# Altium schematic symbol library TSAL_PL.SchLib: 35 symbols (part 1 of 2)
Pins are listed as number, name and electrical type; pins without a type are passive.

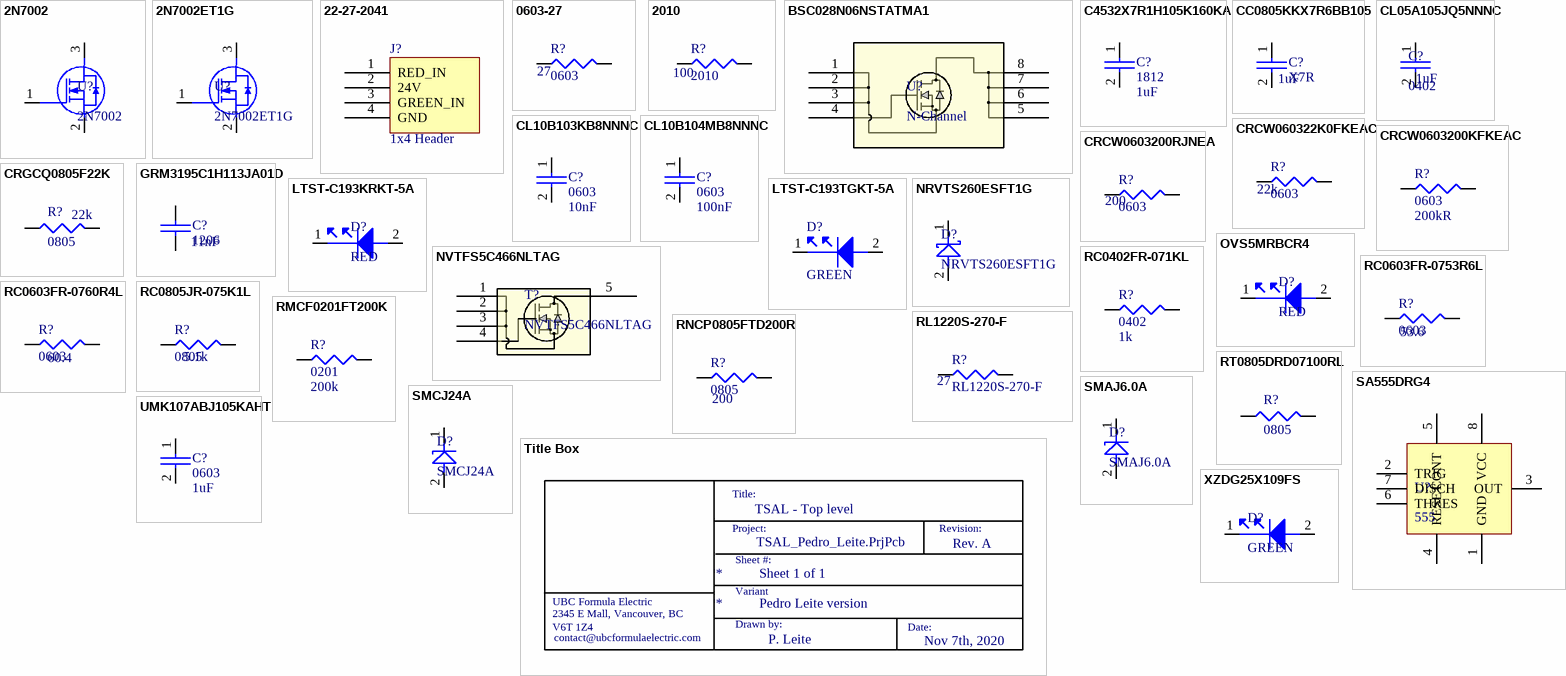
[diagram p0: symbols 2N7002 to XZDG25X109FS]

## 2N7002
designator U?
ON SEMICONDUCTOR - 2N7002 - MOSFET Transistor, N Channel, 115 mA, 60 V, 1.2 ohm, 10 V, 2.1 V; Manufacturer: ON Semiconductor / Fairchild; Drain to Source Voltage (Vdss): 60V; Continuous Drain Current (ID): 115mA; Drain to Source Resistance: 1.2R; Gate to Source Voltage (Vgs): 20V; Power Dissipation: 200mW; Element Configuration: Single; Threshold Voltage: 2.1V; Number of Elements: 1; On-State Resistance: 5.3R; Input Capacitance: 50pF; Rds On Max: 7.5R; Supplier 1: Digi-Key; Manufacturer Part Number: 2N7002; RoHS: Yes; Category: MOSFETs; Stock 1: 1092022; Pricing 1: 1=0.32000, 10=0.26300, 25=0.22040, 100=0.10780, 500=0.08992, 1000=0.06248 (USD); Mount: Surface Mount; Case/Package: SOT-23; Number of Pins: 3; Contact Plating: Tin,Matte; Min Operating Temperature: -55°C; Max Operating Temperature: 150°C; Voltage Rating (DC): 60V; Current Rating: 115mA; Drain to Source Breakdown Voltage: 60V; Packaging: Tape and Reel; Max Power Dissipation: 200mW; Package Quantity: 1; Current: 115mA; Voltage: 60V; Nominal Vgs: 2.1V; Dual Supply Voltage: 60V; Length: 2.92mm; Height: 0.93mm; Width: 3.05mm; Radiation Hardening: No; Lead Free: Lead Free; REACH SVHC: No SVHC; ComponentLink1URL: https://datasheet.ciiva.com/931/2n7000-931777.pdf?src-supplier=Farnell; ComponentLink1Description: https://datasheet.ciiva.com/931/2n7000-931777.pdf?src-supplier=Farnell; ComponentLink2URL: https://datasheet.ciiva.com/1254/2n7002-1254451.pdf?src-supplier=Newark; ComponentLink2Description: https://datasheet.ciiva.com/1254/2n7002-1254451.pdf?src-supplier=Newark; ComponentLink3URL: https://datasheet.ciiva.com/15137/getdatasheetpartid-93547-15137771.pdf?src-supplier=Verical; ComponentLink3Description: https://datasheet.ciiva.com/15137/getdatasheetpartid-93547-15137771.pdf?src-supplier=Verical; ComponentLink4URL: https://datasheet.ciiva.com/27746/47-0120-27746881.pdf?src-supplier=Rapid+Electronics; ComponentLink4Description: https://datasheet.ciiva.com/27746/47-0120-27746881.pdf?src-supplier=Rapid+Electronics; ComponentLink5URL: https://datasheet.ciiva.com/1254/660093-1254452.pdf?src-supplier=Newark; ComponentLink5Description: https://datasheet.ciiva.com/1254/660093-1254452.pdf?src-supplier=Newark; ComponentLink6URL: https://datasheet.ciiva.com/931/2n7000-931762.pdf?src-supplier=Digi-Key; ComponentLink6Description: https://datasheet.ciiva.com/931/2n7000-931762.pdf?src-supplier=Digi-Key; ComponentLink7URL: https://datasheet.ciiva.com/931/2n7000-931763.pdf?src-supplier=Digi-Key; ComponentLink7Description: https://datasheet.ciiva.com/931/2n7000-931763.pdf?src-supplier=Digi-Key; ComponentLink8URL: https://datasheet.ciiva.com/931/2n7000-931764.pdf?src-supplier=Digi-Key; ComponentLink8Description: https://datasheet.ciiva.com/931/2n7000-931764.pdf?src-supplier=Digi-Key; ComponentLink9URL: https://datasheet.ciiva.com/1188/660093-1188359.pdf?src-supplier=Element14; ComponentLink9Description: https://datasheet.ciiva.com/1188/660093-1188359.pdf?src-supplier=Element14; ComponentLink10URL: https://datasheet.ciiva.com/1188/660093-1188361.pdf?src-supplier=Element14; ComponentLink10Description: https://datasheet.ciiva.com/1188/660093-1188361.pdf?src-supplier=Element14; ComponentLink11URL: https://datasheet.ciiva.com/17007/2n7002-17007243.pdf?src-supplier=Future+Electronics; ComponentLink11Description: https://datasheet.ciiva.com/17007/2n7002-17007243.pdf?src-supplier=Future+Electronics; ComponentLink12URL: https://datasheet.ciiva.com/3304/nds7002a-3304381.pdf?src-supplier=Avnet; ComponentLink12Description: https://datasheet.ciiva.com/3304/nds7002a-3304381.pdf?src-supplier=Avnet; ComponentLink13URL: https://datasheet.ciiva.com/22655/660093-22655230.pdf?src-supplier=Element14; ComponentLink13Description: https://datasheet.ciiva.com/22655/660093-22655230.pdf?src-supplier=Element14; Supplier Part Number 1: 2N7002NCT-ND
footprint 2N7002
pins: 1 G, 2 S, 3 D

## 2N7002ET1G
designator U?
Trans MOSFET N-CH 60V 0.26A 3-Pin SOT-23 T/R; Manufacturer: ON Semiconductor; Continuous Drain Current (ID): 260mA; Turn-Off Delay Time: 4.8ns; Turn-On Delay Time: 1.7ns; Gate to Source Voltage (Vgs): 20V; Rds On Max: 2.5R; Input Capacitance: 26.7pF; Rise Time: 1.2ns; Max Power Dissipation: 300mW; Element Configuration: Single; Nominal Vgs: 1V; Number of Elements: 1; Supplier 1: Digi-Key; Manufacturer Part Number: 2N7002ET1G; RoHS: Yes; Category: MOSFETs; Stock 1: 151215; Pricing 1: 1=0.18000, 10=0.16300, 25=0.15520, 100=0.06820, 500=0.05356, 1000=0.03720 (USD); Case/Package: SOT-23-3; Number of Pins: 3; Min Operating Temperature: -55°C; Max Operating Temperature: 150°C; Package Quantity: 3000; Packaging: Tape and Reel; Fall Time: 1.2ns; Drain to Source Resistance: 2.5R; On-State Resistance: 2.5R; Drain to Source Breakdown Voltage: 60V; Power Dissipation: 300mW; Threshold Voltage: 1V; Length: 2.9mm; Width: 1.3mm; Height: 0.94mm; Radiation Hardening: No; Lead Free: Lead Free; REACH SVHC: No SVHC; Halogen Free: Halogen Free; ComponentLink1URL: https://datasheet.ciiva.com/936/2n7002e-d-936787.pdf?src-supplier=Digi-Key; ComponentLink1Description: https://datasheet.ciiva.com/936/2n7002e-d-936787.pdf?src-supplier=Digi-Key; ComponentLink2URL: https://datasheet.ciiva.com/8059/2n7002e-d-8059427.pdf?src-supplier=Element14; ComponentLink2Description: https://datasheet.ciiva.com/8059/2n7002e-d-8059427.pdf?src-supplier=Element14; ComponentLink3URL: https://datasheet.ciiva.com/13060/2n7002e-d-105476-13060091.pdf?src-supplier=Mouser; ComponentLink3Description: https://datasheet.ciiva.com/13060/2n7002e-d-105476-13060091.pdf?src-supplier=Mouser; ComponentLink4URL: https://datasheet.ciiva.com/26146/2n7002e-d-26146200.pdf?src-supplier=Avnet+Europe; ComponentLink4Description: https://datasheet.ciiva.com/26146/2n7002e-d-26146200.pdf?src-supplier=Avnet+Europe; ComponentLink5URL: https://datasheet.ciiva.com/49018/70339334-49018202.pdf?src-supplier=Allied+Electronics; ComponentLink5Description: https://datasheet.ciiva.com/49018/70339334-49018202.pdf?src-supplier=Allied+Electronics; ComponentLink6URL: https://datasheet.ciiva.com/22641/1708226-22641627.pdf?src-supplier=Element14; ComponentLink6Description: https://datasheet.ciiva.com/22641/1708226-22641627.pdf?src-supplier=Element14; ComponentLink7URL: https://datasheet.ciiva.com/22641/1708226-22641628.pdf?src-supplier=Element14; ComponentLink7Description: https://datasheet.ciiva.com/22641/1708226-22641628.pdf?src-supplier=Element14; ComponentLink8URL: https://datasheet.ciiva.com/936/2n7002e-d-936788.pdf?src-supplier=Digi-Key; ComponentLink8Description: https://datasheet.ciiva.com/936/2n7002e-d-936788.pdf?src-supplier=Digi-Key; ComponentLink9URL: https://datasheet.ciiva.com/936/2n7002e-d-936789.pdf?src-supplier=Digi-Key; ComponentLink9Description: https://datasheet.ciiva.com/936/2n7002e-d-936789.pdf?src-supplier=Digi-Key; ComponentLink10URL: https://datasheet.ciiva.com/3304/2n7002e-d-3304389.pdf?src-supplier=Avnet; ComponentLink10Description: https://datasheet.ciiva.com/3304/2n7002e-d-3304389.pdf?src-supplier=Avnet; ComponentLink11URL: https://datasheet.ciiva.com/3304/2n7002e-d-3304390.pdf?src-supplier=Avnet; ComponentLink11Description: https://datasheet.ciiva.com/3304/2n7002e-d-3304390.pdf?src-supplier=Avnet; ComponentLink12URL: https://datasheet.ciiva.com/15198/getdatasheetpartid-53846-15198758.pdf?src-supplier=Verical; ComponentLink12Description: https://datasheet.ciiva.com/15198/getdatasheetpartid-53846-15198758.pdf?src-supplier=Verical; ComponentLink13URL: https://datasheet.ciiva.com/16305/2n7002e-d-16305452.pdf?src-supplier=Future+Electronics; ComponentLink13Description: https://datasheet.ciiva.com/16305/2n7002e-d-16305452.pdf?src-supplier=Future+Electronics; Supplier Part Number 1: 2N7002ET1GOSCT-ND
footprint 2N7002ET1G
pins: 1 G, 2 S, 3 D

## 22-27-2041
designator J?, comment 1x4 Header
Conn Wire to Board HDR 4 POS 2.54mm Solder ST Thru-Hole Bag; Manufacturer: Molex; Number of Positions: 4; Connector Type: Male Pin; Gender: Male; Contact Resistance: 10mR; Supplier 1: Digi-Key; Manufacturer Part Number: 22-27-2041; RoHS: Yes; Category: Headers and Wire Housings; Stock 1: 5089; Pricing 1: 1=0.40000, 10=0.38300, 100=0.26800, 500=0.22974, 1000=0.19145, 5000=0.16410, 10000=0.15316 (USD); Mount: Through Hole; Color: Natural; Housing Color: White; Housing Material: Nylon; Contact Material: Brass; Contact Plating: Tin,Copper; Min Operating Temperature: 0°C; Max Operating Temperature: 75°C; Number of Rows: 1; Packaging: Bulk; Termination: Solder; Orientation: Straight; Number of Contacts: 4; Fastening Type: Friction; Length: 10.16mm; Pitch: 2.54mm; Depth: 5.8mm; Contact Mating Length: 0.295inch; ComponentLink1URL: https://datasheet.ciiva.com/6813/022272021-sd-6813678.pdf?src-supplier=Digi-Key; ComponentLink1Description: https://datasheet.ciiva.com/6813/022272021-sd-6813678.pdf?src-supplier=Digi-Key; ComponentLink2URL: https://datasheet.ciiva.com/7844/1625756-7844114.pdf?src-supplier=Element14; ComponentLink2Description: https://datasheet.ciiva.com/7844/1625756-7844114.pdf?src-supplier=Element14; ComponentLink3URL: https://datasheet.ciiva.com/11746/0900766b80462714-11746241.pdf?src-supplier=RSComponents; ComponentLink3Description: https://datasheet.ciiva.com/11746/0900766b80462714-11746241.pdf?src-supplier=RSComponents; ComponentLink4URL: https://datasheet.ciiva.com/20207/22-0838e-20207115.pdf?src-supplier=Rapid+Electronics; ComponentLink4Description: https://datasheet.ciiva.com/20207/22-0838e-20207115.pdf?src-supplier=Rapid+Electronics; ComponentLink5URL: https://datasheet.ciiva.com/15217/getdatasheetpartid-176661-15217685.pdf?src-supplier=Verical; ComponentLink5Description: https://datasheet.ciiva.com/15217/getdatasheetpartid-176661-15217685.pdf?src-supplier=Verical; ComponentLink6URL: https://datasheet.ciiva.com/49385/879300-49385686.pdf?src-supplier=Jameco; ComponentLink6Description: https://datasheet.ciiva.com/49385/879300-49385686.pdf?src-supplier=Jameco; Supplier Part Number 1: WM4113-ND
footprint HDR1x4
pins: 1 RED_IN, 2 24V, 3 GREEN_IN, 4 GND

## 0603-27
designator R?, comment 0603  R?: 27
RES SMD 27 OHM 1% 1/4W 0603; Manufacturer: Vishay; Manufacturer Part Number: CRCW060327R0FKEAHP; Voltage Rating (DC): 75V; Max Power Dissipation: 250mW; Temperature Coefficient: 100ppm/°C; Supplier 1: Digi-Key; RoHS: Yes; Category: Chip SMD Resistors; Stock 1: 23069; Pricing 1: 1=0.15000, 10=0.12900, 100=0.05030, 1000=0.02106, 2500=0.01930 (USD); Mount: Surface Mount; Case/Package: 0603; Contact Plating: Tin; Case Code (Metric): 1608; Case Code (Imperial): 0603; Min Operating Temperature: -55°C; Max Operating Temperature: 155°C; Resistor Type: Thick Film; Features: Automotive AEC-Q200; Tolerance: 1%; Power Rating: 250mW; Voltage Rating: 75V; Packaging: Tape and Reel; Package Quantity: 5000; Number of Terminations: 2; Termination: SMD/SMT; Length: 1.6mm; Width: 0.033inch; Height: 0.45mm; Depth: 0.85mm; Radiation Hardening: No; Lead Free: Lead Free; REACH SVHC: Unknown; Military Standard: Not; ComponentLink1URL: https://datasheet.ciiva.com/2576/crcwhpe3-2576651.pdf?src-supplier=Digi-Key; ComponentLink1Description: https://datasheet.ciiva.com/2576/crcwhpe3-2576651.pdf?src-supplier=Digi-Key; ComponentLink2URL: https://datasheet.ciiva.com/7672/1885357-7672891.pdf?src-supplier=Element14; ComponentLink2Description: https://datasheet.ciiva.com/7672/1885357-7672891.pdf?src-supplier=Element14; ComponentLink3URL: https://datasheet.ciiva.com/9022/crcwhpe3-9022395.pdf?src-supplier=Avnet; ComponentLink3Description: https://datasheet.ciiva.com/9022/crcwhpe3-9022395.pdf?src-supplier=Avnet; ComponentLink4URL: https://datasheet.ciiva.com/7672/1885357-7672892.pdf?src-supplier=Element14; ComponentLink4Description: https://datasheet.ciiva.com/7672/1885357-7672892.pdf?src-supplier=Element14; ComponentLink5URL: https://datasheet.ciiva.com/12559/crcwhpe3-46056-12559294.pdf?src-supplier=Mouser; ComponentLink5Description: https://datasheet.ciiva.com/12559/crcwhpe3-46056-12559294.pdf?src-supplier=Mouser; Supplier Part Number 1: 541-27.0SCT-ND
footprint 0603 RESISTOR (YAGEO) (Chip Resistor, 2-Leads, Body 1.60x0.80mm, IPC Medium Density)
pins: 1, 2

## 2010
designator R?  Resistence: 100
TE CONNECTIVITY - CRGP2010F100R - RES, 100R, 1%, 1.25W, 2010, THICK FILM; Supplier 1: Digi-Key; Manufacturer: TE Connectivity; Manufacturer Part Number: CRGP2010F100R; RoHS: No; Category: Chip SMD Resistors; Stock 1: 14514; Pricing 1: 1=0.37000, 10=0.28600, 100=0.12040, 1000=0.06643 (USD); ComponentLink1URL: https://www.te.com/commerce/DocumentDelivery/DDEController?Action=srchrtrv&amp;DocNm=9-1773463-9&amp;DocType=DS&amp;DocLang=English&src-supplier=Digi-Key; ComponentLink1Description: https://www.te.com/commerce/DocumentDelivery/DDEController?Action=srchrtrv&amp;DocNm=9-1773463-9&amp;DocType=DS&amp;DocLang=English&src-supplier=Digi-Key; ComponentLink2URL: https://4donline.ihs.com/images/VipMasterIC/IC/TYEL/TYEL-S-A0005460475/TYEL-S-A0005460475-1.pdf?hkey=52A5661711E402568146F3353EA87419&src-supplier=Farnell; ComponentLink2Description: https://4donline.ihs.com/images/VipMasterIC/IC/TYEL/TYEL-S-A0005460475/TYEL-S-A0005460475-1.pdf?hkey=52A5661711E402568146F3353EA87419&src-supplier=Farnell; ComponentLink3URL: https://4donline.ihs.com/images/VipMasterIC/IC/TYEL/TYEL-S-A0005460475/TYEL-S-A0005460475-1.pdf?hkey=52A5661711E402568146F3353EA87419&src-supplier=Newark; ComponentLink3Description: https://4donline.ihs.com/images/VipMasterIC/IC/TYEL/TYEL-S-A0005460475/TYEL-S-A0005460475-1.pdf?hkey=52A5661711E402568146F3353EA87419&src-supplier=Newark; Supplier Part Number 1: A130648CT-ND
footprint 2010 RESISTOR (YAGEO) (Chip Resistor, 2-Leads, Body 5.00x2.50mm, IPC Medium Density)
pins: 1, 2

## BSC028N06NSTATMA1
designator U?, comment N-Channel
OptiMOS Power Transistor MOSFET N-Channel 60V 100A 8-Pin PG-TDSON T/R; Manufacturer: Infineon; Manufacturer Part Number: BSC028N06NSTATMA1; Rds On Max: 2.8mR; Input Capacitance: 3.375nF; Max Power Dissipation: 100W; Supplier 1: Digi-Key; RoHS: No; Category: MOSFETs; Stock 1: 4955; Pricing 1: 1=2.03000, 10=1.82000, 25=1.71720, 100=1.33950, 500=1.13338, 1000=0.96166, 2500=0.94792 (USD); Mount: Surface Mount; Number of Pins: 8; Min Operating Temperature: -55°C; Max Operating Temperature: 175°C; Packaging: Tape and Reel; Drain to Source Voltage (Vdss): 60V; Continuous Drain Current (ID): 100A; ComponentLink1URL: https://www.infineon.com/dgdl/Infineon-BSC028N06NST-DS-v02_01-EN.pdf?fileId=5546d462602a9dc80160546e6c1d2cbb&src-supplier=Digi-Key; ComponentLink1Description: https://www.infineon.com/dgdl/Infineon-BSC028N06NST-DS-v02_01-EN.pdf?fileId=5546d462602a9dc80160546e6c1d2cbb&src-supplier=Digi-Key; Supplier Part Number 1: BSC028N06NSTATMA1CT-ND
pins: 1, 2, 3, 4, 5, 6, 7, 8

## C4532X7R1H105K160KA
designator C?, comment 1812  Capacitance: 1uF
CAP CER 1UF 50V X7R 1812; Manufacturer: TDK; Manufacturer Part Number: C4532X7R1H105K160KA; Dielectric Material: Ceramic; Tolerance: 10%; Supplier 1: Digi-Key; RoHS: Yes; Category: Ceramic Capacitors; Stock 1: 990; Pricing 1: 1=0.73000, 10=0.53900, 50=0.43120, 100=0.36960, 500=0.29260 (USD); Mount: Surface Mount; Case/Package: 1812; Number of Pins: 2; Weight: 0.000952oz; Case Code (Metric): 4532; Case Code (Imperial): 1812; Min Operating Temperature: -55°C; Max Operating Temperature: 125°C; Package Quantity: 1; Voltage Rating: 50V; Packaging: Tape and Reel; Voltage Rating (DC): 50V; Dielectric: X7R; Termination: SMD/SMT; Resistor Type: Ceramic; Length: 0.177inch; Width: 0.126inch; Thickness: 0.071inch; Depth: 3.2mm; REACH SVHC: Unknown; Lead Free: Lead Free; ComponentLink1URL: https://datasheet.ciiva.com/24224/c4532x7r1h105k160ka-265492-24224025.pdf?src-supplier=Mouser; ComponentLink1Description: https://datasheet.ciiva.com/24224/c4532x7r1h105k160ka-265492-24224025.pdf?src-supplier=Mouser; ComponentLink2URL: https://datasheet.ciiva.com/6286/tdkmlcccaprange-6286270.pdf?src-supplier=Digi-Key; ComponentLink2Description: https://datasheet.ciiva.com/6286/tdkmlcccaprange-6286270.pdf?src-supplier=Digi-Key; Supplier Part Number 1: 445-3913-1-ND
pins: 1, 2

## CC0805KKX7R6BB105
designator C?, comment X7R  Capacitance: 1uF
YAGEO - CC0805KKX7R6BB105 - Keramikvielschichtkondensator, SMD, 1 µF, 10 V, 0805 [Metrisch 2012], ± 10%, X7R, Baureihe CC; Dielectric Material: Ceramic; Voltage Rating: 10V; Supplier 1: Digi-Key; Manufacturer: Yageo; Manufacturer Part Number: CC0805KKX7R6BB105; RoHS: Yes; Category: Ceramic Capacitors; Stock 1: 620418; Pricing 1: 1=0.16000, 10=0.11300, 50=0.06440, 100=0.05340, 500=0.03740, 1000=0.03097 (USD); Mount: Surface Mount; Case/Package: 0805; Number of Pins: 2; Case Code (Imperial): 0805; Case Code (Metric): 2012; Min Operating Temperature: -55°C; Max Operating Temperature: 125°C; Tolerance: 10%; Voltage Rating (DC): 10V; Packaging: Tape and Reel; Package Quantity: 1; Dielectric: X7R; Termination: SMD/SMT; Resistor Type: Ceramic; Length: 2mm; Width: 1.25mm; Height: 1.25mm; Thickness: 0.057inch; Depth: 1.25mm; Radiation Hardening: No; REACH SVHC: Unknown; Lead Free: Lead Free; Halogen Free: Halogen Free; ComponentLink1URL: https://datasheet.ciiva.com/13389/upy-gp-np0-16v-to-50v-8-13389349.pdf?src-supplier=Mouser; ComponentLink1Description: https://datasheet.ciiva.com/13389/upy-gp-np0-16v-to-50v-8-13389349.pdf?src-supplier=Mouser; ComponentLink2URL: https://datasheet.ciiva.com/46430/1734573-46430165.pdf?src-supplier=Element14; ComponentLink2Description: https://datasheet.ciiva.com/46430/1734573-46430165.pdf?src-supplier=Element14; ComponentLink3URL: https://datasheet.ciiva.com/28450/1489800-28450742.pdf?src-supplier=Element14; ComponentLink3Description: https://datasheet.ciiva.com/28450/1489800-28450742.pdf?src-supplier=Element14; ComponentLink4URL: https://datasheet.ciiva.com/7978/1489800-7978199.pdf?src-supplier=Element14; ComponentLink4Description: https://datasheet.ciiva.com/7978/1489800-7978199.pdf?src-supplier=Element14; ComponentLink5URL: https://datasheet.ciiva.com/176/mlccorderingcode-176908.pdf?src-supplier=Digi-Key; ComponentLink5Description: https://datasheet.ciiva.com/176/mlccorderingcode-176908.pdf?src-supplier=Digi-Key; ComponentLink6URL: https://datasheet.ciiva.com/11583/upy-gphc-x7r-6-3v-to-50v-8-11583596.pdf?src-supplier=Avnet; ComponentLink6Description: https://datasheet.ciiva.com/11583/upy-gphc-x7r-6-3v-to-50v-8-11583596.pdf?src-supplier=Avnet; ComponentLink7URL: https://datasheet.ciiva.com/176/mlccorderingcode-176909.pdf?src-supplier=Digi-Key; ComponentLink7Description: https://datasheet.ciiva.com/176/mlccorderingcode-176909.pdf?src-supplier=Digi-Key; ComponentLink8URL: https://datasheet.ciiva.com/8033/1489800-8033973.pdf?src-supplier=Element14; ComponentLink8Description: https://datasheet.ciiva.com/8033/1489800-8033973.pdf?src-supplier=Element14; ComponentLink9URL: https://datasheet.ciiva.com/17437/upy-gphc-x7r-6-3v-to-50v-8-17437525.pdf?src-supplier=Avnet+Europe; ComponentLink9Description: https://datasheet.ciiva.com/17437/upy-gphc-x7r-6-3v-to-50v-8-17437525.pdf?src-supplier=Avnet+Europe; ComponentLink10URL: https://datasheet.ciiva.com/176/mlccorderingcode-176907.pdf?src-supplier=Digi-Key; ComponentLink10Description: https://datasheet.ciiva.com/176/mlccorderingcode-176907.pdf?src-supplier=Digi-Key; ComponentLink11URL: https://datasheet.ciiva.com/8033/1489800-8033998.pdf?src-supplier=Element14; ComponentLink11Description: https://datasheet.ciiva.com/8033/1489800-8033998.pdf?src-supplier=Element14; Supplier Part Number 1: 311-1458-1-ND
footprint RESC0805X60N
pins: 1, 2

## CL05A105JQ5NNNC
designator C?, comment 0402  Capacitance: 1uF
Cap Ceramic 1uF 6.3V X5R 5% SMD 0402 85°C Paper T/R; Manufacturer: Samsung; Manufacturer Part Number: CL05A105JQ5NNNC; Supplier 1: Digi-Key; RoHS: Yes; Category: Ceramic Capacitors; Stock 1: 1161821; Pricing 1: 1=0.10000, 10=0.04200, 50=0.02260, 100=0.01850, 500=0.01320, 1000=0.01038, 2500=0.00943, 5000=0.00868 (USD); Mount: Surface Mount; Case/Package: 0402; Case Code (Metric): 1005; Case Code (Imperial): 0402; Min Operating Temperature: -55°C; Max Operating Temperature: 85°C; Package Quantity: 1; Packaging: Cut Tape; Tolerance: 5%; Voltage Rating: 6.3V; Voltage Rating (DC): 6.3V; Length: 0.039inch; Width: 0.02inch; Thickness: 0.022inch; Lead Free: Lead Free; ComponentLink1URL: https://datasheet.ciiva.com/25717/cl05a105jq5nnnc-25717825.pdf?src-supplier=Digi-Key; ComponentLink1Description: https://datasheet.ciiva.com/25717/cl05a105jq5nnnc-25717825.pdf?src-supplier=Digi-Key; Supplier Part Number 1: 1276-1444-1-ND
footprint C0402
pins: 1, 2

## CL10B103KB8NNNC
designator C?, comment 0603  Capacitance: 10nF
Cap Ceramic 0.01uF 50VDC X7R 10% SMD 0603 Paper T/R; Manufacturer: Samsung; Manufacturer Part Number: CL10B103KB8NNNC; Voltage Rating (DC): 50V; Supplier 1: Digi-Key; RoHS: Yes; Category: Ceramic Capacitors; Stock 1: 3003971; Pricing 1: 1=0.10000, 10=0.02700, 50=0.01480, 100=0.01210, 500=0.00866, 1000=0.00681 (USD); Mount: Surface Mount; Case/Package: 0603; Case Code (Metric): 1608; Case Code (Imperial): 0603; Material: Ceramic; Contact Plating: Tin; Min Operating Temperature: -55°C; Max Operating Temperature: 125°C; Dielectric: X7R; Voltage: 50V; Tolerance: 10%; Voltage Rating: 50V; Package Quantity: 1; Packaging: Tape and Reel; Length: 1.6mm; Height: 0.8mm; Depth: 0.8mm; Thickness: 0.035inch; Width: 0.031inch; Radiation Hardening: No; Lead Free: Lead Free; ComponentLink1URL: https://datasheet.ciiva.com/15195/getdatasheetpartid-357415-15195721.pdf?src-supplier=Verical; ComponentLink1Description: https://datasheet.ciiva.com/15195/getdatasheetpartid-357415-15195721.pdf?src-supplier=Verical; ComponentLink2URL: https://datasheet.ciiva.com/29198/457455-da-01-en-vs-kondensator-0603-29198644.pdf?src-supplier=Conrad; ComponentLink2Description: https://datasheet.ciiva.com/29198/457455-da-01-en-vs-kondensator-0603-29198644.pdf?src-supplier=Conrad; ComponentLink3URL: https://datasheet.ciiva.com/20173/71-0315-20173334.pdf?src-supplier=Rapid+Electronics; ComponentLink3Description: https://datasheet.ciiva.com/20173/71-0315-20173334.pdf?src-supplier=Rapid+Electronics; Supplier Part Number 1: 1276-1009-1-ND
footprint 0603 CAPACITOR (TDK C-SERIES) (Chip Capacitor, 2-Leads, Body 1.60x0.80mm, IPC Medium Density)
pins: 1, 2

## CL10B104MB8NNNC
designator C?, comment 0603  Capacitance: 100nF
Cap Ceramic 0.1uF 50V X7R 20% SMD 0603 125C Paper T/R; Manufacturer: Samsung; Manufacturer Part Number: CL10B104MB8NNNC; Supplier 1: Digi-Key; RoHS: Yes; Category: Ceramic Capacitors; Stock 1: 711595; Pricing 1: 1=0.10000, 10=0.02800, 50=0.01520, 100=0.01250, 500=0.00890, 1000=0.00699 (USD); Mount: Surface Mount; Case/Package: 0603; Case Code (Imperial): 0603; Case Code (Metric): 1608; Min Operating Temperature: -55°C; Max Operating Temperature: 125°C; Dielectric: X7R; Package Quantity: 1; Packaging: Tape and Reel; Tolerance: 20%; Voltage Rating: 50V; Voltage Rating (DC): 50V; Length: 1.6mm; Height: 0.8mm; Thickness: 0.035inch; Depth: 0.8mm; Width: 0.031inch; Radiation Hardening: No; Lead Free: Lead Free; ComponentLink1URL: https://datasheet.ciiva.com/25767/cl10b104mb8nnnc-25767970.pdf?src-supplier=Digi-Key; ComponentLink1Description: https://datasheet.ciiva.com/25767/cl10b104mb8nnnc-25767970.pdf?src-supplier=Digi-Key; ComponentLink2URL: https://datasheet.ciiva.com/16428/cl05b104kq5nnnc-16428855.pdf?src-supplier=Future+Electronics; ComponentLink2Description: https://datasheet.ciiva.com/16428/cl05b104kq5nnnc-16428855.pdf?src-supplier=Future+Electronics; Supplier Part Number 1: 1276-1941-1-ND
pins: 1, 2

## CRCW060322K0FKEAC
designator R?, comment 0603  Resistance: 22k
Res Thick Film 0603 22K Ohm 1% 1/10W ±100ppm/°C Molded SMD Paper T/R; Manufacturer: Vishay Semiconductors; Manufacturer Part Number: CRCW060322K0FKEAC; Power Rating: 100mW; Supplier 1: Digi-Key; RoHS: Yes; Category: Resistors; Stock 1: 48223; Pricing 1: 1=0.10000, 10=0.03100, 100=0.01260, 1000=0.00567, 2500=0.00492 (USD); Mount: Surface Mount; Case/Package: Molded; Contact Plating: Tin; Min Operating Temperature: -55°C; Max Operating Temperature: 155°C; Resistor Type: Thick Film; Termination: Wraparound; Tolerance: 1%; Temperature Coefficient: 100ppm/°C; Length: 1.55mm; Lead Free: Lead Free; ComponentLink1URL: http://www.vishay.com/docs/28773/crcwce3.pdf?src-supplier=Digi-Key; ComponentLink1Description: http://www.vishay.com/docs/28773/crcwce3.pdf?src-supplier=Digi-Key; ComponentLink2URL: http://www.vishay.com/docs/20035/dcrcwe3.pdf?src-supplier=Avnet+Asia; ComponentLink2Description: http://www.vishay.com/docs/20035/dcrcwe3.pdf?src-supplier=Avnet+Asia; Supplier Part Number 1: 541-4036-1-ND
footprint 0603 RESISTOR (YAGEO) (Chip Resistor, 2-Leads, Body 1.60x0.80mm, IPC Medium Density)
pins: 1, 2

## CRCW0603200KFKEAC
designator R?, comment 0603  Resistance: 200kR
Res Thick Film 0603 200K Ohm 1% 1/10W ±100ppm/°C Molded SMD Paper T/R; Manufacturer: Vishay; Manufacturer Part Number: CRCW0603200KFKEAC; Power Rating: 100mW; Supplier 1: Digi-Key; RoHS: Yes; Category: Resistors; Stock 1: 12235; Pricing 1: 1=0.10000, 10=0.03100, 100=0.01260, 1000=0.00567, 2500=0.00492 (USD); Mount: Surface Mount; Case/Package: Molded; Contact Plating: Tin; Min Operating Temperature: -55°C; Max Operating Temperature: 155°C; Resistor Type: Thick Film; Termination: Wraparound; Temperature Coefficient: 100ppm/°C; Tolerance: 1%; Length: 1.55mm; Lead Free: Lead Free; ComponentLink1URL: http://www.vishay.com/docs/28773/crcwce3.pdf?src-supplier=Digi-Key; ComponentLink1Description: http://www.vishay.com/docs/28773/crcwce3.pdf?src-supplier=Digi-Key; Supplier Part Number 1: 541-4027-1-ND
footprint 0603 RESISTOR (YAGEO) (Chip Resistor, 2-Leads, Body 1.60x0.80mm, IPC Medium Density)
pins: 1, 2

## CRCW0603200RJNEA
designator R?, comment 0603  Resistance: 200
Resistor; Thick Film; 200 Ohms; 0.1 W; 5%; SMT; 0603; TCR 73 ppm/DegC; Tape and Reel; Manufacturer: Vishay Dale; Manufacturer Part Number: CRCW0603200RJNEA; Power Rating: 100mW; Voltage Rating: 75V; Temperature Coefficient: 200ppm/°C; Supplier 1: Digi-Key; RoHS: Yes; Category: Chip SMD Resistors; Stock 1: 28865; Pricing 1: 1=0.10000, 10=0.02800, 100=0.01140, 1000=0.00511, 2500=0.00444 (USD); Mount: Surface Mount; Case/Package: 0603; Number of Pins: 2; Weight: 7.1E-05oz; Case Code (Metric): 1608; Case Code (Imperial): 0603; Contact Plating: Tin; Min Operating Temperature: -55°C; Max Operating Temperature: 155°C; Package Quantity: 1; Tolerance: 5%; Packaging: Tape and Reel; Resistor Type: Thick Film; Number of Terminations: 2; Termination: Solder; Max Power Dissipation: 100mW; Voltage Rating (DC): 75V; Working Voltage: 75V; Features: Automotive AEC-Q200; Length: 1.55mm; Height: 0.45mm; Width: 0.033inch; Depth: 0.85mm; Radiation Hardening: No; REACH SVHC: Unknown; Military Standard: Not; Lead Free: Lead Free; ComponentLink1URL: https://datasheet.ciiva.com/2462/dcrcwe3-2462513.pdf?src-supplier=Digi-Key; ComponentLink1Description: https://datasheet.ciiva.com/2462/dcrcwe3-2462513.pdf?src-supplier=Digi-Key; ComponentLink2URL: https://datasheet.ciiva.com/2462/dcrcwe3-2462511.pdf?src-supplier=Digi-Key; ComponentLink2Description: https://datasheet.ciiva.com/2462/dcrcwe3-2462511.pdf?src-supplier=Digi-Key; ComponentLink3URL: https://datasheet.ciiva.com/16774/70201119-16774767.pdf?src-supplier=Allied+Electronics; ComponentLink3Description: https://datasheet.ciiva.com/16774/70201119-16774767.pdf?src-supplier=Allied+Electronics; ComponentLink4URL: https://datasheet.ciiva.com/2462/dcrcwe3-2462512.pdf?src-supplier=Digi-Key; ComponentLink4Description: https://datasheet.ciiva.com/2462/dcrcwe3-2462512.pdf?src-supplier=Digi-Key; ComponentLink5URL: https://datasheet.ciiva.com/28606/1747939-28606725.pdf?src-supplier=Element14; ComponentLink5Description: https://datasheet.ciiva.com/28606/1747939-28606725.pdf?src-supplier=Element14; ComponentLink6URL: https://datasheet.ciiva.com/16199/dcrcwe3-16199431.pdf?src-supplier=Future+Electronics; ComponentLink6Description: https://datasheet.ciiva.com/16199/dcrcwe3-16199431.pdf?src-supplier=Future+Electronics; Supplier Part Number 1: 541-200GCT-ND
footprint 0603 RESISTOR (YAGEO) (Chip Resistor, 2-Leads, Body 1.60x0.80mm, IPC Medium Density)
pins: 1, 2

## CRGCQ0805F22K
designator R?, comment 0805  Resistence: 22k
TE CONNECTIVITY - CRGCQ0805F22K - Resistore su Chip a Mont. Superficiale, 0805 [2012 Metrico], 22 kohm, CRGCQ Series, 150 V; Supplier 1: Digi-Key; Manufacturer: TE Connectivity; Manufacturer Part Number: CRGCQ0805F22K; RoHS: No; Category: Chip SMD Resistors; Stock 1: 38586; Pricing 1: 1=0.10000, 10=0.04400, 100=0.01790, 1000=0.00803, 2500=0.00697 (USD); ComponentLink1URL: https://4donline.ihs.com/images/VipMasterIC/IC/TYEL/TYEL-S-A0004929575/TYEL-S-A0004929575-1.pdf?hkey=52A5661711E402568146F3353EA87419&src-supplier=Newark; ComponentLink1Description: https://4donline.ihs.com/images/VipMasterIC/IC/TYEL/TYEL-S-A0004929575/TYEL-S-A0004929575-1.pdf?hkey=52A5661711E402568146F3353EA87419&src-supplier=Newark; ComponentLink2URL: https://www.te.com/commerce/DocumentDelivery/DDEController?Action=srchrtrv&amp;DocNm=1773204-3&amp;DocType=DS&amp;DocLang=English&src-supplier=Digi-Key; ComponentLink2Description: https://www.te.com/commerce/DocumentDelivery/DDEController?Action=srchrtrv&amp;DocNm=1773204-3&amp;DocType=DS&amp;DocLang=English&src-supplier=Digi-Key; ComponentLink3URL: https://4donline.ihs.com/images/VipMasterIC/IC/TYEL/TYEL-S-A0004929575/TYEL-S-A0004929575-1.pdf?hkey=52A5661711E402568146F3353EA87419&src-supplier=Farnell; ComponentLink3Description: https://4donline.ihs.com/images/VipMasterIC/IC/TYEL/TYEL-S-A0004929575/TYEL-S-A0004929575-1.pdf?hkey=52A5661711E402568146F3353EA87419&src-supplier=Farnell; Supplier Part Number 1: A129765CT-ND
footprint R0805
pins: 1, 2

## GRM3195C1H113JA01D
designator C?, comment 1206  Capacitance: 11nF
CAP CER 0.011UF 50V C0G/NP0 1206; Manufacturer: Murata; Manufacturer Part Number: GRM3195C1H113JA01D; Tolerance: 5%; Dielectric: C0G; Supplier 1: Digi-Key; RoHS: Yes; Category: Ceramic Capacitors; Stock 1: 4556; Pricing 1: 1=0.48000, 10=0.34000, 50=0.25720, 100=0.22390, 500=0.16588, 1000=0.14100 (USD); Mount: Surface Mount; Case/Package: 1206; Case Code (Imperial): 1206; Case Code (Metric): 3216; Min Operating Temperature: -55°C; Max Operating Temperature: 125°C; Packaging: Tape and Reel; Package Quantity: 1; Voltage Rating: 50V; Voltage Rating (DC): 50V; Termination: SMD/SMT; Voltage: 50V; Length: 3.2mm; Height: 0.85mm; Width: 0.063inch; Thickness: 0.037inch; Depth: 1.6mm; Radiation Hardening: No; Lead Free: Lead Free; ComponentLink1URL: https://datasheet.ciiva.com/5424/product-5424081.pdf?src-supplier=Mouser; ComponentLink1Description: https://datasheet.ciiva.com/5424/product-5424081.pdf?src-supplier=Mouser; ComponentLink2URL: https://datasheet.ciiva.com/140/partnumbering-e-01-140328.pdf?src-supplier=Digi-Key; ComponentLink2Description: https://datasheet.ciiva.com/140/partnumbering-e-01-140328.pdf?src-supplier=Digi-Key; ComponentLink3URL: https://datasheet.ciiva.com/140/partnumbering-e-01-140329.pdf?src-supplier=Digi-Key; ComponentLink3Description: https://datasheet.ciiva.com/140/partnumbering-e-01-140329.pdf?src-supplier=Digi-Key; ComponentLink4URL: https://datasheet.ciiva.com/140/partnumbering-e-01-140330.pdf?src-supplier=Digi-Key; ComponentLink4Description: https://datasheet.ciiva.com/140/partnumbering-e-01-140330.pdf?src-supplier=Digi-Key; ComponentLink5URL: https://datasheet.ciiva.com/11619/product-11619707.pdf?src-supplier=Avnet; ComponentLink5Description: https://datasheet.ciiva.com/11619/product-11619707.pdf?src-supplier=Avnet; Supplier Part Number 1: 490-1755-1-ND
footprint C1206
pins: 17, 18

## LTST-C193KRKT-5A
designator D?, comment RED
LED Uni-Color Red 639nm 2-Pin Chip LED T/R; Manufacturer: Vishay Lite-On; Manufacturer Part Number: LTST-C193KRKT-5A; Lens Color: Colorless; Viewing Angle: 130°; Lens Style: Diffused,Colorless,Clear,Rectangular; Luminous Intensity: 45mcd; Forward Current: 5mA; Forward Voltage: 2.3V; Lens Transparency: Clear; Dominant Wavelength: 631nm; Number of Elements: 1; Power Dissipation: 50mW; Reverse Voltage: 5V; Supplier 1: Digi-Key; RoHS: Yes; Category: LEDs; Stock 1: 63093; Pricing 1: 1=0.39000, 10=0.28400, 100=0.13460, 500=0.08970, 1000=0.07027, 2500=0.06877 (USD); Mount: Surface Mount; Case/Package: 0603; Number of Pins: 2; Color: Red; Case Code (Metric): 1608; Case Code (Imperial): 0603; Min Operating Temperature: -55°C; Max Operating Temperature: 85°C; Package Quantity: 3000; Packaging: Tape and Reel; Illumination Color: Red; Test Current: 5mA; Number of LEDs: 1; Length: 1.6mm; Height: 0.35mm; Width: 0.8mm; Depth: 0.8mm; Radiation Hardening: No; Lead Free: Lead Free; ComponentLink1URL: https://datasheet.ciiva.com/4689/100-ltst-c193krkt-5a-61179-4689123.pdf?src-supplier=Mouser; ComponentLink1Description: https://datasheet.ciiva.com/4689/100-ltst-c193krkt-5a-61179-4689123.pdf?src-supplier=Mouser; ComponentLink2URL: https://datasheet.ciiva.com/16210/ltst-c193krkt-5a-16210822.pdf?src-supplier=Future+Electronics; ComponentLink2Description: https://datasheet.ciiva.com/16210/ltst-c193krkt-5a-16210822.pdf?src-supplier=Future+Electronics; ComponentLink3URL: https://datasheet.ciiva.com/11775/0900766b80dc0551-11775612.pdf?src-supplier=RSComponents; ComponentLink3Description: https://datasheet.ciiva.com/11775/0900766b80dc0551-11775612.pdf?src-supplier=RSComponents; ComponentLink4URL: https://datasheet.ciiva.com/2110/s-110-ltst-c193krkt-5a-2110272.pdf?src-supplier=Digi-Key; ComponentLink4Description: https://datasheet.ciiva.com/2110/s-110-ltst-c193krkt-5a-2110272.pdf?src-supplier=Digi-Key; Supplier Part Number 1: 160-1830-1-ND
footprint LED0603
pins: 1, 2

## LTST-C193TGKT-5A
designator D?, comment GREEN
LED GREEN CLEAR CHIP SMD; Manufacturer: Vishay Lite-On; Manufacturer Part Number: LTST-C193TGKT-5A; Lens Color: Colorless; Number of LEDs: 1; Forward Current: 5mA; Forward Voltage: 3.1V; Luminous Intensity: 280mcd; Viewing Angle: 130°; Lens Style: Diffused,Colorless,Rectangular; Reverse Voltage: 5V; Dominant Wavelength: 535nm; Power Dissipation: 76mW; Supplier 1: Digi-Key; RoHS: Yes; Category: LEDs; Stock 1: 153753; Pricing 1: 1=0.47000, 10=0.33600, 100=0.21950, 500=0.15778, 1000=0.12348, 2500=0.11319 (USD); Mount: Surface Mount; Case/Package: 0603; Number of Pins: 2; Color: Green; Case Code (Imperial): 0603; Case Code (Metric): 1608; Min Operating Temperature: -20°C; Max Operating Temperature: 80°C; Packaging: Tape and Reel; Package Quantity: 3000; Lens Transparency: Clear; Test Current: 5mA; Number of Elements: 1; Length: 1.6mm; Height: 0.35mm; Width: 0.8mm; Depth: 0.8mm; Radiation Hardening: No; Lead Free: Lead Free; ComponentLink1URL: https://datasheet.ciiva.com/11775/0900766b80dc0555-11775617.pdf?src-supplier=RSComponents; ComponentLink1Description: https://datasheet.ciiva.com/11775/0900766b80dc0555-11775617.pdf?src-supplier=RSComponents; ComponentLink2URL: https://datasheet.ciiva.com/2111/ltst-c193tgkt-5a-2111818.pdf?src-supplier=Digi-Key; ComponentLink2Description: https://datasheet.ciiva.com/2111/ltst-c193tgkt-5a-2111818.pdf?src-supplier=Digi-Key; ComponentLink3URL: https://datasheet.ciiva.com/4689/lite-on-ltst-c193tgkt-5a-187259-4689610.pdf?src-supplier=Mouser; ComponentLink3Description: https://datasheet.ciiva.com/4689/lite-on-ltst-c193tgkt-5a-187259-4689610.pdf?src-supplier=Mouser; ComponentLink4URL: https://datasheet.ciiva.com/2111/p-100-ltst-c193tgkt-5a-2111819.pdf?src-supplier=Digi-Key; ComponentLink4Description: https://datasheet.ciiva.com/2111/p-100-ltst-c193tgkt-5a-2111819.pdf?src-supplier=Digi-Key; ComponentLink5URL: https://datasheet.ciiva.com/2111/p-100-ltst-c193tgkt-5a-2111820.pdf?src-supplier=Digi-Key; ComponentLink5Description: https://datasheet.ciiva.com/2111/p-100-ltst-c193tgkt-5a-2111820.pdf?src-supplier=Digi-Key; Supplier Part Number 1: 160-1832-1-ND; Illumination Color: Green
footprint LED0603
pins: 1, 2

## NRVTS260ESFT1G
designator D?
ON SEMICONDUCTOR - NRVTS260ESFT1G - Schottky Rectifier, 60 V, 2 A, Single, SOD-123, 2 Pins, 650 mV; Max Reverse Voltage (DC): 60V; Average Rectified Current: 2A; Max Reverse Current: 12uA; Forward Voltage: 650mV; Max Forward Surge Current (Ifsm): 25A; Peak Non-Repetitive Surge Current: 50A; Supplier 1: Digi-Key; Manufacturer: ON Semiconductor; Manufacturer Part Number: NRVTS260ESFT1G; RoHS: Yes; Category: Schottky Diodes; Pricing 1: 1=0.34000, 10=0.22100, 100=0.11060, 500=0.09164, 1000=0.06004 (USD); Mount: Surface Mount; Case/Package: SOD; Number of Pins: 2; Min Operating Temperature: -65°C; Max Operating Temperature: 175°C; Packaging: Tape and Reel; Reverse Voltage (DC): 60V; Forward Current: 2A; Max Repetitive Reverse Voltage (Vrrm): 60V; Element Configuration: Single; Package Quantity: 3000; Length: 2.9mm; Width: 1.8mm; Height: 0.88mm; REACH SVHC: No SVHC; Lead Free: Lead Free; ComponentLink1URL: https://datasheet.ciiva.com/53019/nts260esf-d-53019548.pdf?src-supplier=Digi-Key; ComponentLink1Description: https://datasheet.ciiva.com/53019/nts260esf-d-53019548.pdf?src-supplier=Digi-Key; Supplier Part Number 1: NRVTS260ESFT1GOSCT-ND
footprint ON NRVTS260ESFT1G (DIODE SCHOTTKY 60V 2A SOD123FL)
pins: 1, 2

## NVTFS5C466NLTAG
designator T?
Single N-Channel Power MOSFET 40V, 51A, 7.3mΩ 1500 / Tape & Reel; Manufacturer: ON Semiconductor; Rds On Max: 7.3mR; Input Capacitance: 880pF; Max Power Dissipation: 38W; Supplier 1: Digi-Key; Manufacturer Part Number: NVTFS5C466NLTAG; RoHS: No; Category: MOSFETs; Stock 1: 2984; Pricing 1: 1=0.62000, 10=0.53100, 25=0.49520, 100=0.36790, 500=0.28724 (USD); Mount: Surface Mount; Number of Pins: 8; Min Operating Temperature: -55°C; Max Operating Temperature: 175°C; Packaging: Cut Tape; Drain to Source Voltage (Vdss): 40V; Continuous Drain Current (ID): 51A; ComponentLink1URL: http://www.farnell.com/datasheets/2290226.pdf?src-supplier=Farnell; ComponentLink1Description: http://www.farnell.com/datasheets/2290226.pdf?src-supplier=Farnell; ComponentLink2URL: http://www.onsemi.com/pub/Collateral/NVTFS5C466NL-D.PDF?src-supplier=Digi-Key; ComponentLink2Description: http://www.onsemi.com/pub/Collateral/NVTFS5C466NL-D.PDF?src-supplier=Digi-Key; ComponentLink3URL: http://www.farnell.com/datasheets/2290226.pdf?src-supplier=Newark; ComponentLink3Description: http://www.farnell.com/datasheets/2290226.pdf?src-supplier=Newark; Supplier Part Number 1: NVTFS5C466NLTAGOSCT-ND
footprint TRANS_NVTFS015N04CTAG
pins: 1, 2, 3, 4, 5

## OVS5MRBCR4
designator D?, comment RED
LED 0.33W RED WTR CLR 3.5MM; Manufacturer: TT Optek; Manufacturer Part Number: OVS5MRBCR4; Reverse Voltage: 12V; Test Current: 150mA; Max Current Rating: 200mA; Dominant Wavelength: 625nm; Power Dissipation: 750mW; Number of Elements: 1; Max Power Dissipation: 330mW; Viewing Angle: 120°; Lens Style: Clear,Diffused,Colorless; Forward Voltage: 2.2V; Luminous Intensity: 7150mcd; Power Rating: 500mW; Supplier 1: Digi-Key; RoHS: Yes; Category: LEDs; Stock 1: 10132; Pricing 1: 1=0.96000, 100=0.92400, 250=0.88000, 500=0.85800 (USD); Mount: Surface Mount; Case/Package: SMD/SMT; Number of Pins: 2; Color: Red; Min Operating Temperature: -40°C; Max Operating Temperature: 100°C; Wavelength: 625nm; Packaging: Tape and Reel; Package Quantity: 1; Illumination Color: Red; Forward Current: 200mA; Length: 3.5mm; Depth: 3.5mm; Lead Free: Lead Free; REACH SVHC: No SVHC; ComponentLink1URL: https://datasheet.ciiva.com/2126/ovs5mabcr4-2126832.pdf?src-supplier=Digi-Key; ComponentLink1Description: https://datasheet.ciiva.com/2126/ovs5mabcr4-2126832.pdf?src-supplier=Digi-Key; ComponentLink2URL: https://datasheet.ciiva.com/16224/ovs5mrbcr4-16224208.pdf?src-supplier=Future+Electronics; ComponentLink2Description: https://datasheet.ciiva.com/16224/ovs5mrbcr4-16224208.pdf?src-supplier=Future+Electronics; ComponentLink3URL: https://datasheet.ciiva.com/2126/ovs5mabcr4-2126833.pdf?src-supplier=Digi-Key; ComponentLink3Description: https://datasheet.ciiva.com/2126/ovs5mabcr4-2126833.pdf?src-supplier=Digi-Key; ComponentLink4URL: https://datasheet.ciiva.com/46403/ovs5mabcr4-46403613.pdf?src-supplier=Element14; ComponentLink4Description: https://datasheet.ciiva.com/46403/ovs5mabcr4-46403613.pdf?src-supplier=Element14; ComponentLink5URL: https://datasheet.ciiva.com/2126/ovs5mabcr4-2126831.pdf?src-supplier=Digi-Key; ComponentLink5Description: https://datasheet.ciiva.com/2126/ovs5mabcr4-2126831.pdf?src-supplier=Digi-Key; Supplier Part Number 1: 365-1546-1-ND
footprint RED LED
pins: 1, 2

## RC0402FR-071KL
designator R?, comment 0402  Resistance: 1k
Surface Mount Chip Resistor, Thick Film, RC Series, 1 kohm, 62.5 mW, 1%, 50 V, 0402 [1005 Metric]; Manufacturer: Yageo; Manufacturer Part Number: RC0402FR-071KL; Temperature Coefficient: 100ppm/°C; Power Rating: 62.5mW; Voltage Rating: 50V; Supplier 1: Digi-Key; RoHS: Yes; Category: Chip SMD Resistors; Stock 1: 37534177; Pricing 1: 1=0.10000, 10=0.01400, 100=0.00580, 1000=0.00262, 2500=0.00228, 5000=0.00188 (USD); Case/Package: 0402; Number of Pins: 2; Case Code (Imperial): 0402; Case Code (Metric): 1005; Min Operating Temperature: -55°C; Max Operating Temperature: 155°C; Tolerance: 1%; Packaging: Tape and Reel; Resistor Type: Thick Film; Voltage Rating (DC): 50V; Termination: SMD/SMT; Length: 1mm; Height: 0.32mm; Width: 0.5mm; Depth: 0.5mm; REACH SVHC: Unknown; Lead Free: Lead Free; Military Standard: Not; ComponentLink1URL: https://datasheet.ciiva.com/11819/0900766b80c66297-11819477.pdf?src-supplier=RSComponents; ComponentLink1Description: https://datasheet.ciiva.com/11819/0900766b80c66297-11819477.pdf?src-supplier=RSComponents; ComponentLink2URL: https://datasheet.ciiva.com/12666/pyu-rc0402-51-rohs-l-6-r-12666741.pdf?src-supplier=Mouser; ComponentLink2Description: https://datasheet.ciiva.com/12666/pyu-rc0402-51-rohs-l-6-r-12666741.pdf?src-supplier=Mouser; ComponentLink3URL: https://datasheet.ciiva.com/17063/pyu-rc0402-51-rohs-l-6-r-17063193.pdf?src-supplier=Future+Electronics; ComponentLink3Description: https://datasheet.ciiva.com/17063/pyu-rc0402-51-rohs-l-6-r-17063193.pdf?src-supplier=Future+Electronics; ComponentLink4URL: https://datasheet.ciiva.com/22747/1018594-22747513.pdf?src-supplier=Element14; ComponentLink4Description: https://datasheet.ciiva.com/22747/1018594-22747513.pdf?src-supplier=Element14; ComponentLink5URL: https://datasheet.ciiva.com/7849/1018594-7849869.pdf?src-supplier=Element14; ComponentLink5Description: https://datasheet.ciiva.com/7849/1018594-7849869.pdf?src-supplier=Element14; ComponentLink6URL: https://datasheet.ciiva.com/7983/1018594-7983502.pdf?src-supplier=Element14; ComponentLink6Description: https://datasheet.ciiva.com/7983/1018594-7983502.pdf?src-supplier=Element14; ComponentLink7URL: https://datasheet.ciiva.com/7849/1018594-7849871.pdf?src-supplier=Element14; ComponentLink7Description: https://datasheet.ciiva.com/7849/1018594-7849871.pdf?src-supplier=Element14; Supplier Part Number 1: 311-1.00KLRCT-ND
footprint R0402(YAGEO)
pins: 1, 2

## RC0603FR-0753R6L
designator R?, comment 0603  Resistance: 53.6
RES SMD 53.6 OHM 1% 1/10W 0603; Manufacturer: Yageo; Manufacturer Part Number: RC0603FR-0753R6L; Power Rating: 100mW; Voltage Rating: 50V; Temperature Coefficient: 100ppm/°C; Supplier 1: Digi-Key; RoHS: Yes; Category: Chip SMD Resistors; Stock 1: 56276; Pricing 1: 1=0.10000, 10=0.02100, 100=0.00850, 1000=0.00382, 2500=0.00331 (USD); Case/Package: 0603; Case Code (Imperial): 0603; Case Code (Metric): 1608; Min Operating Temperature: -55°C; Max Operating Temperature: 155°C; Tolerance: 1%; Packaging: Tape and Reel; Termination: SMD/SMT; Resistor Type: Thick Film; Voltage Rating (DC): 50V; Length: 1.6mm; Width: 0.8mm; Height: 0.45mm; Depth: 0.8mm; Military Standard: Not; Lead Free: Lead Free; ComponentLink1URL: http://www.mouser.com/ds/2/447/RC0603-272842.pdf?src-supplier=Mouser; ComponentLink1Description: http://www.mouser.com/ds/2/447/RC0603-272842.pdf?src-supplier=Mouser; ComponentLink2URL: http://components.arrow.com/part/dataview/0323_03540904?src-supplier=Arrow+Europe; ComponentLink2Description: http://components.arrow.com/part/dataview/0323_03540904?src-supplier=Arrow+Europe; ComponentLink3URL: http://www.yageo.com/documents/recent/PYu-RC_Group_51_RoHS_L_9.pdf?src-supplier=Digi-Key; ComponentLink3Description: http://www.yageo.com/documents/recent/PYu-RC_Group_51_RoHS_L_9.pdf?src-supplier=Digi-Key; ComponentLink4URL: http://www.yageo.com/documents/recent/PYu-RC_Group_51_RoHS_L_10.pdf?src-supplier=Digi-Key; ComponentLink4Description: http://www.yageo.com/documents/recent/PYu-RC_Group_51_RoHS_L_10.pdf?src-supplier=Digi-Key; ComponentLink5URL: http://www.yageo.com/documents/recent/PYu-RC0603_51_RoHS_L_7.pdf?src-supplier=Future+Electronics; ComponentLink5Description: http://www.yageo.com/documents/recent/PYu-RC0603_51_RoHS_L_7.pdf?src-supplier=Future+Electronics; Supplier Part Number 1: 311-53.6HRCT-ND
footprint 0603 RESISTOR (YAGEO) (Chip Resistor, 2-Leads, Body 1.60x0.80mm, IPC Medium Density)
pins: 1, 2

## RC0603FR-0760R4L
designator R?, comment 0603  Resistance: 60.4
RES SMD 60.4 OHM 1% 1/10W 0603; Manufacturer: Yageo; Manufacturer Part Number: RC0603FR-0760R4L; Power Rating: 100mW; Voltage Rating: 50V; Temperature Coefficient: 100ppm/°C; Supplier 1: Digi-Key; RoHS: Yes; Category: Chip SMD Resistors; Stock 1: 1087363; Pricing 1: 1=0.10000, 10=0.02100, 100=0.00850, 1000=0.00382, 2500=0.00331 (USD); Case/Package: 0603; Case Code (Imperial): 0603; Case Code (Metric): 1608; Min Operating Temperature: -55°C; Max Operating Temperature: 155°C; Packaging: Tape and Reel; Tolerance: 1%; Termination: SMD/SMT; Resistor Type: Thick Film; Voltage Rating (DC): 50V; Length: 1.6mm; Width: 0.8mm; Height: 0.45mm; Depth: 0.8mm; Military Standard: Not; Lead Free: Lead Free; ComponentLink1URL: https://datasheet.ciiva.com/12558/rc0603-272842-12558933.pdf?src-supplier=Mouser; ComponentLink1Description: https://datasheet.ciiva.com/12558/rc0603-272842-12558933.pdf?src-supplier=Mouser; Supplier Part Number 1: 311-60.4HRCT-ND
footprint 0603 RESISTOR (YAGEO) (Chip Resistor, 2-Leads, Body 1.60x0.80mm, IPC Medium Density)
pins: 1, 2

## RC0805JR-075K1L
designator R?, comment 0805  Resistance: 5.1k
Res Thick Film 0805 5.1K Ohm 5% 0.125W(1/8W) ±100ppm/C Epoxy Pad SMD T/R; Manufacturer: Yageo; Manufacturer Part Number: RC0805JR-075K1L; Power Rating: 125mW; Voltage Rating: 150V; Temperature Coefficient: 100ppm/°C; Supplier 1: Digi-Key; RoHS: Yes; Category: Chip SMD Resistors; Stock 1: 146225; Pricing 1: 1=0.10000, 10=0.03100, 100=0.01270, 1000=0.00572, 2500=0.00497 (USD); Case/Package: 0805; Number of Pins: 2; Case Code (Metric): 2012; Case Code (Imperial): 0805; Contact Plating: Tin,Matte,Lead; Weight: 0.000194oz; Min Operating Temperature: -55°C; Max Operating Temperature: 155°C; Tolerance: 5%; Package Quantity: 1; Packaging: Tape and Reel; Resistor Type: Thick Film; Number of Terminations: 2; Termination: SMD/SMT; Max Power Dissipation: 125mW; Voltage Rating (DC): 150V; Features: Moisture Resistant; Length: 2mm; Width: 0.049inch; Height: 0.024inch; Depth: 1.25mm; Radiation Hardening: No; Military Standard: Not; Lead Free: Lead Free; REACH SVHC: No SVHC; ComponentLink1URL: https://datasheet.ciiva.com/2456/pyu-r-int-thick-7-2456155.pdf?src-supplier=Digi-Key; ComponentLink1Description: https://datasheet.ciiva.com/2456/pyu-r-int-thick-7-2456155.pdf?src-supplier=Digi-Key; ComponentLink2URL: https://datasheet.ciiva.com/15190/getdatasheetpartid-329214-15190059.pdf?src-supplier=Verical; ComponentLink2Description: https://datasheet.ciiva.com/15190/getdatasheetpartid-329214-15190059.pdf?src-supplier=Verical; ComponentLink3URL: https://datasheet.ciiva.com/2456/pyu-r-int-thick-7-2456156.pdf?src-supplier=Digi-Key; ComponentLink3Description: https://datasheet.ciiva.com/2456/pyu-r-int-thick-7-2456156.pdf?src-supplier=Digi-Key; ComponentLink4URL: https://datasheet.ciiva.com/2456/pyu-r-int-thick-7-2456157.pdf?src-supplier=Digi-Key; ComponentLink4Description: https://datasheet.ciiva.com/2456/pyu-r-int-thick-7-2456157.pdf?src-supplier=Digi-Key; ComponentLink5URL: https://datasheet.ciiva.com/12577/rc0805-12577711.pdf?src-supplier=Mouser; ComponentLink5Description: https://datasheet.ciiva.com/12577/rc0805-12577711.pdf?src-supplier=Mouser; Supplier Part Number 1: 311-5.1KARCT-ND
footprint 0805 RESISTOR (YAGEO) (Chip Resistor, 2-Leads, Body 2.00x1.25mm, IPC Medium Density)
pins: 1, 2

## RL1220S-270-F
designator R?  Resistance: 27
RES SMD 27 OHM 1% 1/3W 0805; Manufacturer: Susumu; Supplier 1: Digi-Key; Manufacturer Part Number: RL1220S-270-F; RoHS: Yes; Category: Chip SMD Resistors; Stock 1: 2466; Pricing 1: 1=0.34000, 10=0.28900, 25=0.21000, 50=0.15220, 100=0.11290, 250=0.08664, 500=0.06826, 1000=0.04725 (USD); Case/Package: 0805; Weight: 0.000194oz; Termination: SMD/SMT; Packaging: Tape and Reel; Package Quantity: 5000; Length: 2mm; Width: 1.25mm; Height: 0.4mm; ComponentLink1URL: http://www.mouser.com/ds/2/392/RL_Data_sheet-263250.pdf?src-supplier=Mouser; ComponentLink1Description: http://www.mouser.com/ds/2/392/RL_Data_sheet-263250.pdf?src-supplier=Mouser; ComponentLink2URL: http://www.susumu.co.jp/common/pdf/n_catalog_partition08_en.pdf?src-supplier=Digi-Key; ComponentLink2Description: http://www.susumu.co.jp/common/pdf/n_catalog_partition08_en.pdf?src-supplier=Digi-Key; Supplier Part Number 1: 408-1396-1-ND
footprint 0805 RESISTOR (YAGEO) (Chip Resistor, 2-Leads, Body 2.00x1.25mm, IPC Medium Density)
pins: 1, 2